# Altium integrated library Linear Technology Power Management Switching Regulator LTC1174-LTC3901.IntLib: 2647 symbols (part 271 of 364)
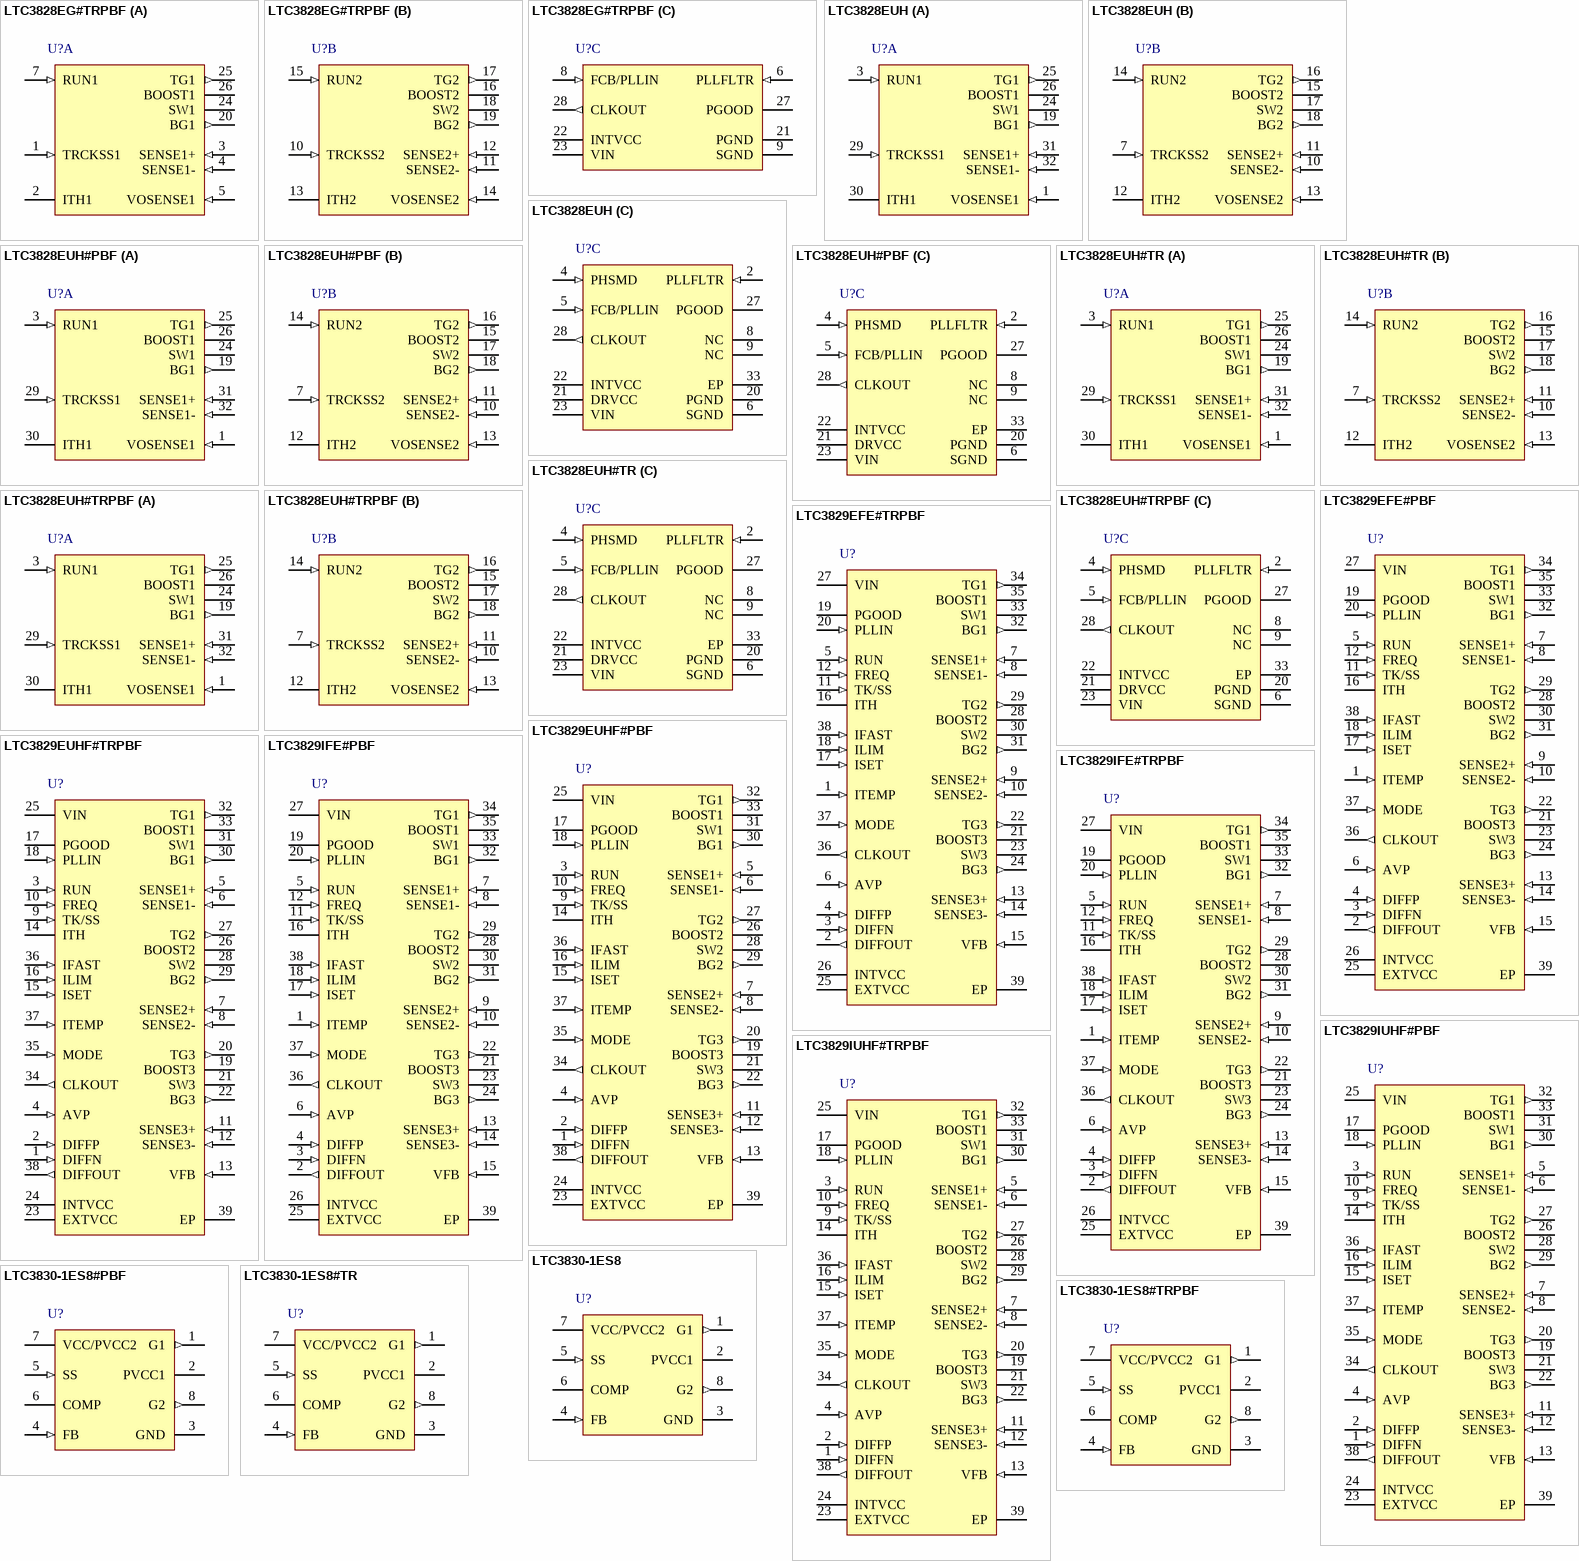
[diagram p355: symbols LTC3828EG#TRPBF to LTC3830-1ES8#TRPBF]

## LTC3829EFE#PBF
designator U?
3-Phase, Single Output Synchronous Step-Down DC/DC Controller with Differential Amplifier, 38-pin SOP (FE-38-EPV-AA), -40 to 125 degC, Pb-Free; Manufacturer: Linear Technology; PartNumber: LTC3829EFE#PBF; Frequency Sync Range: 250kHz - 770kHz; Number of Outputs: 1; DatasheetVersion: Rev. A; PackageVersion: Rev. C, 09/2010; PackageReference: FE-38; PackageDescription: 38-Pin Plastic TSSOP, Body 9.7 x 4.4 mm, Pitch 0.5 mm; Supplier 1: Digi-Key; Supplier Part Number 1: LTC3829EFE#PBF-ND; Supplier 2: Farnell; Supplier Part Number 2: 1839099; RoHS: TRUE; Mounting Technology: Surface Mount; ComponentLink1Description: Manufacturer URL; ComponentLink1URL: http://www.linear.com/; ComponentLink2Description: Datasheet; ComponentLink2URL: http://cds.linear.com/docs/en/datasheet/3829fa.pdf; ComponentLink3Description: Package Specification; ComponentLink3URL: http://cds.linear.com/docs/en/packaging/TSSOP_38_05-08-1772.pdf
footprint LT-FE-38-EPV-AA_N (SOP, 38-Leads, Body 9.8x4.5mm, Pitch 0.5mm, Thermal Pad 4.75x2.74mm, IPC Medium Density)
footprint LT-FE-38-EPV-AA_L (SOP, 38-Leads, Body 9.8x4.5mm, Pitch 0.5mm, Thermal Pad 4.75x2.74mm, IPC High Density)
footprint LT-FE-38-EPV-AA_M (SOP, 38-Leads, Body 9.8x4.5mm, Pitch 0.5mm, Thermal Pad 4.75x2.74mm, IPC Low Density)
pins: 1 ITEMP (in) "Input of the Temperature Sensing Comparator. Connect this pin to external NTC resistors placed near inductors.", 2 DIFFOUT (out) "Output of Remote Sensing Differential Amplifier. Connect this pin to VFB through a resistive divider.", 3 DIFFN (in) "Negative Input of Remote Sensing Differential Amplifier. Connect this to the remote load ground pin.", 4 DIFFP (in) "Positive Input of Remote Sensing Differential Amplifier. Must connect this to the remote load positive terminal directly even when diffamp is not used.", 5 RUN (in) "Run Control Input. A voltage above 1.22V on this pin turns on the IC. There is a 1.0uA pull-up current for this pin. Once the RUN pin rises above 1.22V, an additional 4.5uA pull-up current is added to the pin.", 6 AVP (in) "Active Voltage Positioning Load Slope Programming Pin. A resistor tied between this pin and the DIFFP pin sets the load slope. The AVP function can only be used with the remote sensing differential amplifier. Short AVP pin (See Datasheet)", 7 SENSE1+ (in) "Current Sense Comparator Inputs. The (+) inputs to the current comparators are normally connected to DCR sensing networks or current sensing resistors.", 8 SENSE1- (in) "Current Sense Comparator Inputs. The (-) inputs to the current comparators are connected to the output.", 9 SENSE2+ (in) "Current Sense Comparator Inputs. The (+) inputs to the current comparators are normally connected to DCR sensing networks or current sensing resistors", 10 SENSE2- (in) "Current Sense Comparator Inputs. The (-) inputs to the current comparators are connected to the output.", 11 TK/SS (in) "Output Voltage Tracking and Soft- Start Input. When one particular IC is configured to be the master of two ICs, a capacitor to ground at this pin sets the ramp rate for the master IC’s output voltage. When the IC i(See Datasheet)", 12 FREQ (in) "There is a precision 10uA current sourced out of this pin. A resistor to ground sets a voltage which in turn programs the frequency. Alternatively, this pin can be driven with a DC voltage to vary the frequency of the (See Datasheet)", 13 SENSE3+ (in) "Current Sense Comparator Inputs. The (+) inputs to the current comparators are normally connected to DCR sensing networks or current sensing resistors.", 14 SENSE3- (in) "Current Sense Comparator Inputs. The (-) inputs to the current comparators are connected to the output.", 15 VFB (in) "Error Amplifier Feedback Input. This pin receives the remotely sensed feedback voltage from an external resistive divider", 16 ITH "Current Control Threshold and Error Amplifier Compensation Point. Each associated channels?current comparator tripping threshold increases with this ITH control voltage.", 17 ISET (in) "Stage Shedding Comparator and Burst Mode Comparator Programming Pin. A resistor to ground programs the stage shedding comparator threshold or Burst Mode comparator threshold and its current limit depending on MODE pin (See Datasheet)", 18 ILIM (in) "Current Comparator Sense Voltage Range Pin. This pin is to be programmed to SGND, FLOAT or INTVCC to set the maximum current sense threshold to one of three different levels for each comparator.", 19 PGOOD (oc) "Power Good Indicator Output. Open-drain logic out that is pulled to ground when the output exceeds +/-10% regulation window after the internal 100us power bad mask timer expires.", 20 PLLIN (in) "External Synchronization Pin. A clock on the pin synchronizes the internal oscillator with the clock on this pin.", 21 BOOST3 "Boosted Floating Driver Supplies. The (+) terminal of the bootstrap capacitors connect to these pins. These pins swing from a diode voltage drop below INTVCC up to VIN + INTVCC.", 22 TG3 (out) "Top Gate Driver Outputs. These are the outputs of floating drivers with a voltage swing equal to INTVCC superimposed on the switch nodes voltages.", 23 SW3 "Switch Node Connections to Inductors. Voltage swing at these pins is from a Schottky diode (external) voltage drop below ground to VIN", 24 BG3 (out) "Bottom Gate Driver Outputs. These pins drive the gates of the bottom N-channel MOSFETs between PGND and INTVCC.", 25 EXTVCC (power) "External Power Input to an Internal Switch Connected to INTVCC. This switch closes and supplies the IC power, bypassing the internal low dropout regulator, whenever EXTVCC is higher than 4.7V. Do not exceed 6V on this pin (See Datasheet)", 26 INTVCC (power) "Internal 5V Regulator Output. The control circuits are powered from this voltage. Decouple this pin to PGND with a minimum of 4.7uF low ESR tantalum or ceramic capacitor.", 27 VIN (power) "Main Input Supply. Decouple this pin to PGND with a capacitor (0.1uF to 1uF).", 28 BOOST2 "Boosted Floating Driver Supplies. The (+) terminal of the bootstrap capacitors connect to these pins. These pins swing from a diode voltage drop below INTVCC up to VIN + INTVCC.", 29 TG2 (out) "Top Gate Driver Outputs. These are the outputs of floating drivers with a voltage swing equal to INTVCC superimposed on the switch nodes voltages.", 30 SW2 "Switch Node Connections to Inductors. Voltage swing at these pins is from a Schottky diode (external) voltage drop below ground to VIN", 31 BG2 (out) "Bottom Gate Driver Outputs. These pins drive the gates of the bottom N-channel MOSFETs between PGND and INTVCC.", 32 BG1 (out) "Bottom Gate Driver Outputs. These pins drive the gates of the bottom N-channel MOSFETs between PGND and INTVCC.", 33 SW1 "Switch Node Connections to Inductors. Voltage swing at these pins is from a Schottky diode (external) voltage drop below ground to VIN", 34 TG1 (out) "Top Gate Driver Outputs. These are the outputs of floating drivers with a voltage swing equal to INTVCC superimposed on the switch nodes voltages.", 35 BOOST1 "Boosted Floating Driver Supplies. The (+) terminal of the bootstrap capacitors connect to these pins. These pins swing from a diode voltage drop below INTVCC up to VIN + INTVCC.", 36 CLKOUT (out) "Clock Output Pin. CLKOUT is 60degrees out of phase relative to channel 1 in non-shedding mode. During stage shedding, CLKOUT is 180degrees out of phase with channel 1.", 37 MODE (in) "Forced Continuous Mode, Burst Mode or Shed Mode Selection Pin. Connect this pin to SGND to force IC in continuous mode of operation. Connect to INTVCC to enable shed mode operation. Leave the pin floating to enable Burst (See Datasheet)", 38 IFAST (in) "Programmable Pin for Nonlinear Control Trip Threshold. A resistor to ground programs the tripping threshold for nonlinear control circuit. Connect this pin to INTVCC to disable this feature. See Applications Information (See Datasheet)", 39 EP (power) "Combined Signal and Power Ground Pad. Connect this pad closely to the sources of the bottom N-channel MOSFETs, the (-) terminal of CVCC and the (-) terminal of CIN. All small-signal components and compensation components (See Datasheet)"